# Altium footprint library 集成块.PcbLib: 98 footprints (part 7 of 7)
Each footprint in its own frame and in the unit in brackets; x right, y up, seen from the top. Pads: shape width x height; smd on the part's side, far side on the other; paste and mask are expansions set on the pad; w line width, h text height; cw(c..) or ccw(c..) is an arc to the next point about the centre after c.
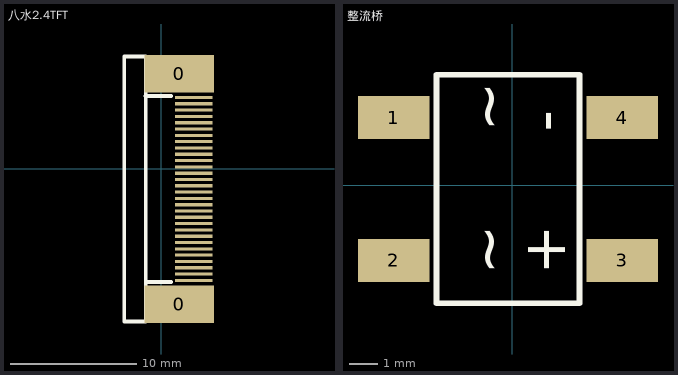
[diagram p6: the footprints below, top view; thin cyan lines are the x and y axes]

## 八水2.4TFT [mm]
pads (32):
  rect 5.5x3 smd: 0(1.419,-10.757) 0(1.419,7.526)
  rect 3x0.25 smd: 1(2.578,5.639) 2(2.578,5.139) 3(2.578,4.639) 4(2.578,4.139) 5(2.578,3.639) 6(2.578,3.139) 7(2.578,2.639) 8(2.578,2.139) 9(2.578,1.639) 10(2.578,1.139) 11(2.578,0.639) 12(2.578,0.139) 13(2.578,-0.361) 14(2.578,-0.861) 15(2.578,-1.361) 16(2.578,-1.861) 17(2.578,-2.361) 18(2.578,-2.861) 19(2.578,-3.361) 20(2.578,-3.861) 21(2.578,-4.361) 22(2.578,-4.861) 23(2.578,-5.361) 24(2.578,-5.861) 25(2.578,-6.361) 26(2.578,-6.861) 27(2.578,-7.361) 28(2.578,-7.861) 29(2.578,-8.361) 30(2.578,-8.861)
Top Overlay:
  lines w0.305: -2.926,8.889 -1.226,8.889 ; -2.922,-12.12 -1.222,-12.12 -1.222,-11.52 ; -2.922,-12.103 -2.922,8.889 ; -1.232,5.764 0.774,5.764 ; -1.226,8.264 -1.226,8.864 ; -1.222,-12.103 -1.222,8.289 ; -1.222,-8.979 0.784,-8.979

## 整流桥 [mm]
pads (4):
  rect 2.5x1.5 smd: 1(-4.14,2.362) 2(-4.14,-2.638) 3(3.86,-2.638) 4(3.86,2.362)
Top Overlay:
  lines w0.2: -2.64,-4.138 -2.64,3.862 2.36,3.862 2.36,-4.138 -2.64,-4.138
  text "-" at 1.86,1.862 h1.52
  text "+" at 1.86,-3.138 h1.52
  text "~" at -0.14,1.862 h1.52
  text "~" at -0.14,-3.138 h1.52